# Altium schematic symbol library WE-KI HC.SchLib: 94 symbols (part 2 of 2)
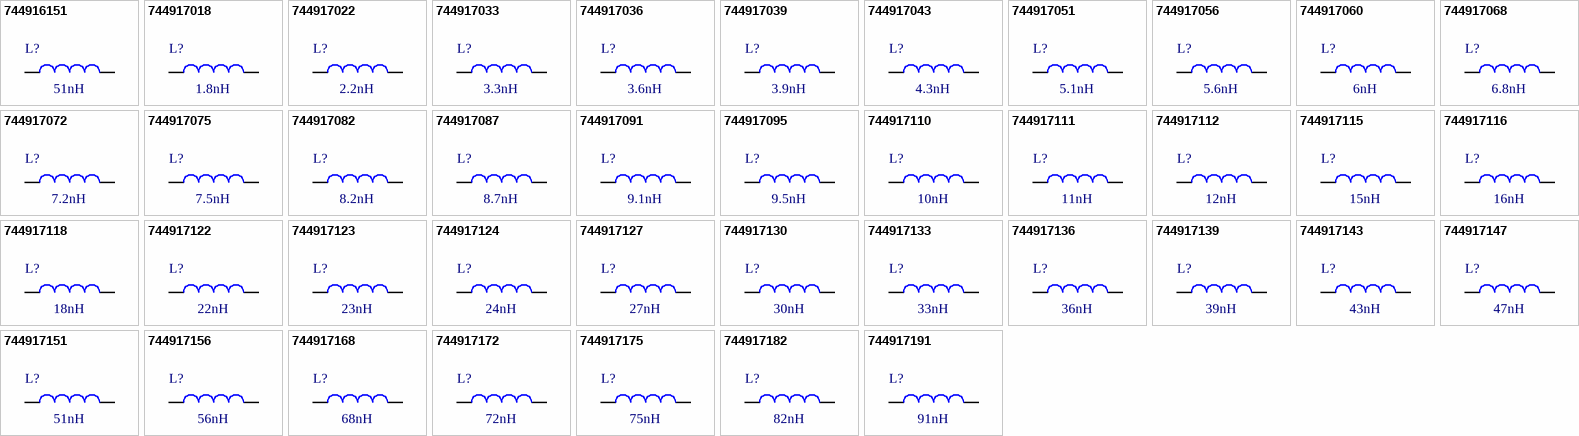
[diagram p3: symbols 744916151 to 744917191]

## 744917095
designator L?, comment 9.5nH
WE-KI HC SMT High Current Wire Wound Ceramic Inductor, size 0603, 9.5nH, 1.4A, 0.053Ω; Manufacturer Part Number: 744917095; Manufacturer: Wurth Elektronik; Case/Size Code: 0603; Inductance Tolerance: +/-2%; Q Factor: 39; Self Resonant Frequency: 4900MHz; Category: RF Inductors; Match Code: WE-KI HC; ComponentLink1Description: Website Link; ComponentLink1URL: https://www.we-online.com/redexpert/article/744917095?ad; ComponentLink2Description: Datasheet Link; ComponentLink2URL: https://www.we-online.com/redexpert/spec/744917095?ad; Mount: Surface Mount; Min Operating Temperature: -40°C; Max Operating Temperature: 125°C; Packaging: Tape and Reel; Length: 1.6mm; Width: 1mm; Height: 0.8mm; DC Resistance Max: 0.053Ω; Inductance: 9.5nH; Rated Current: 1.4A
footprint WE-KI HC_0603
simulation model 0603_744917095_9.5n
pins: 1, 2

## 744917110
designator L?, comment 10nH
WE-KI HC SMT High Current Wire Wound Ceramic Inductor, size 0603, 10nH, 1.4A, 0.048Ω; Manufacturer Part Number: 744917110; Manufacturer: Wurth Elektronik; Case/Size Code: 0603; Inductance Tolerance: +/-2%; Q Factor: 39; Self Resonant Frequency: 4300MHz; Category: RF Inductors; Match Code: WE-KI HC; ComponentLink1Description: Website Link; ComponentLink1URL: https://www.we-online.com/redexpert/article/744917110?ad; ComponentLink2Description: Datasheet Link; ComponentLink2URL: https://www.we-online.com/redexpert/spec/744917110?ad; Mount: Surface Mount; Min Operating Temperature: -40°C; Max Operating Temperature: 125°C; Packaging: Tape and Reel; Length: 1.6mm; Width: 1mm; Height: 0.8mm; DC Resistance Max: 0.048Ω; Inductance: 10nH; Rated Current: 1.4A
footprint WE-KI HC_0603
simulation model 0603_744917110_10n
pins: 1, 2

## 744917111
designator L?, comment 11nH
WE-KI HC SMT High Current Wire Wound Ceramic Inductor, size 0603, 11nH, 1.4A, 0.058Ω; Manufacturer Part Number: 744917111; Manufacturer: Wurth Elektronik; Case/Size Code: 0603; Inductance Tolerance: +/-2%; Q Factor: 33; Self Resonant Frequency: 4100MHz; Category: RF Inductors; Match Code: WE-KI HC; ComponentLink1Description: Website Link; ComponentLink1URL: https://www.we-online.com/redexpert/article/744917111?ad; ComponentLink2Description: Datasheet Link; ComponentLink2URL: https://www.we-online.com/redexpert/spec/744917111?ad; Mount: Surface Mount; Min Operating Temperature: -40°C; Max Operating Temperature: 125°C; Packaging: Tape and Reel; Length: 1.6mm; Width: 1mm; Height: 0.8mm; DC Resistance Max: 0.058Ω; Inductance: 11nH; Rated Current: 1.4A
footprint WE-KI HC_0603
simulation model 0603_744917111_11n
pins: 1, 2

## 744917112
designator L?, comment 12nH
WE-KI HC SMT High Current Wire Wound Ceramic Inductor, size 0603, 12nH, 1.1A, 0.115Ω; Manufacturer Part Number: 744917112; Manufacturer: Wurth Elektronik; Case/Size Code: 0603; Inductance Tolerance: +/-2%; Q Factor: 30; Self Resonant Frequency: 4100MHz; Category: RF Inductors; Match Code: WE-KI HC; ComponentLink1Description: Website Link; ComponentLink1URL: https://www.we-online.com/redexpert/article/744917112?ad; ComponentLink2Description: Datasheet Link; ComponentLink2URL: https://www.we-online.com/redexpert/spec/744917112?ad; Mount: Surface Mount; Min Operating Temperature: -40°C; Max Operating Temperature: 125°C; Packaging: Tape and Reel; Length: 1.6mm; Width: 1mm; Height: 0.8mm; DC Resistance Max: 0.115Ω; Inductance: 12nH; Rated Current: 1.1A
footprint WE-KI HC_0603
simulation model 0603_744917112_12n
pins: 1, 2

## 744917115
designator L?, comment 15nH
WE-KI HC SMT High Current Wire Wound Ceramic Inductor, size 0603, 15nH, 1.2A, 0.078Ω; Manufacturer Part Number: 744917115; Manufacturer: Wurth Elektronik; Case/Size Code: 0603; Inductance Tolerance: +/-2%; Q Factor: 38; Self Resonant Frequency: 3600MHz; Category: RF Inductors; Match Code: WE-KI HC; ComponentLink1Description: Website Link; ComponentLink1URL: https://www.we-online.com/redexpert/article/744917115?ad; ComponentLink2Description: Datasheet Link; ComponentLink2URL: https://www.we-online.com/redexpert/spec/744917115?ad; Mount: Surface Mount; Min Operating Temperature: -40°C; Max Operating Temperature: 125°C; Packaging: Tape and Reel; Length: 1.6mm; Width: 1mm; Height: 0.8mm; DC Resistance Max: 0.078Ω; Inductance: 15nH; Rated Current: 1.2A
footprint WE-KI HC_0603
simulation model 0603_744917115_15n
pins: 1, 2

## 744917116
designator L?, comment 16nH
WE-KI HC SMT High Current Wire Wound Ceramic Inductor, size 0603, 16nH, 1.1A, 0.085Ω; Manufacturer Part Number: 744917116; Manufacturer: Wurth Elektronik; Case/Size Code: 0603; Inductance Tolerance: +/-2%; Q Factor: 36; Self Resonant Frequency: 3500MHz; Category: RF Inductors; Match Code: WE-KI HC; ComponentLink1Description: Website Link; ComponentLink1URL: https://www.we-online.com/redexpert/article/744917116?ad; ComponentLink2Description: Datasheet Link; ComponentLink2URL: https://www.we-online.com/redexpert/spec/744917116?ad; Mount: Surface Mount; Min Operating Temperature: -40°C; Max Operating Temperature: 125°C; Packaging: Tape and Reel; Length: 1.6mm; Width: 1mm; Height: 0.8mm; DC Resistance Max: 0.085Ω; Inductance: 16nH; Rated Current: 1.1A
footprint WE-KI HC_0603
simulation model 0603_744917116_16n
pins: 1, 2

## 744917118
designator L?, comment 18nH
WE-KI HC SMT High Current Wire Wound Ceramic Inductor, size 0603, 18nH, 1.2A, 0.066Ω; Manufacturer Part Number: 744917118; Manufacturer: Wurth Elektronik; Case/Size Code: 0603; Inductance Tolerance: +/-2%; Q Factor: 33; Self Resonant Frequency: 3300MHz; Category: RF Inductors; Match Code: WE-KI HC; ComponentLink1Description: Website Link; ComponentLink1URL: https://www.we-online.com/redexpert/article/744917118?ad; ComponentLink2Description: Datasheet Link; ComponentLink2URL: https://www.we-online.com/redexpert/spec/744917118?ad; Mount: Surface Mount; Min Operating Temperature: -40°C; Max Operating Temperature: 125°C; Packaging: Tape and Reel; Length: 1.6mm; Width: 1mm; Height: 0.8mm; DC Resistance Max: 0.066Ω; Inductance: 18nH; Rated Current: 1.2A
footprint WE-KI HC_0603
simulation model 0603_744917118_18n
pins: 1, 2

## 744917122
designator L?, comment 22nH
WE-KI HC SMT High Current Wire Wound Ceramic Inductor, size 0603, 22nH, 0.85A, 0.14Ω; Manufacturer Part Number: 744917122; Manufacturer: Wurth Elektronik; Case/Size Code: 0603; Inductance Tolerance: +/-2%; Q Factor: 35; Self Resonant Frequency: 3150MHz; Category: RF Inductors; Match Code: WE-KI HC; ComponentLink1Description: Website Link; ComponentLink1URL: https://www.we-online.com/redexpert/article/744917122?ad; ComponentLink2Description: Datasheet Link; ComponentLink2URL: https://www.we-online.com/redexpert/spec/744917122?ad; Mount: Surface Mount; Min Operating Temperature: -40°C; Max Operating Temperature: 125°C; Packaging: Tape and Reel; Length: 1.6mm; Width: 1mm; Height: 0.8mm; DC Resistance Max: 0.14Ω; Inductance: 22nH; Rated Current: 0.85A
footprint WE-KI HC_0603
simulation model 0603_744917122_22n
pins: 1, 2

## 744917123
designator L?, comment 23nH
WE-KI HC SMT High Current Wire Wound Ceramic Inductor, size 0603, 23nH, 0.85A, 0.19Ω; Manufacturer Part Number: 744917123; Manufacturer: Wurth Elektronik; Case/Size Code: 0603; Inductance Tolerance: +/-2%; Q Factor: 32; Self Resonant Frequency: 3000MHz; Category: RF Inductors; Match Code: WE-KI HC; ComponentLink1Description: Website Link; ComponentLink1URL: https://www.we-online.com/redexpert/article/744917123?ad; ComponentLink2Description: Datasheet Link; ComponentLink2URL: https://www.we-online.com/redexpert/spec/744917123?ad; Mount: Surface Mount; Min Operating Temperature: -40°C; Max Operating Temperature: 125°C; Packaging: Tape and Reel; Length: 1.6mm; Width: 1mm; Height: 0.8mm; DC Resistance Max: 0.19Ω; Inductance: 23nH; Rated Current: 0.85A
footprint WE-KI HC_0603
simulation model 0603_744917123_23n
pins: 1, 2

## 744917124
designator L?, comment 24nH
WE-KI HC SMT High Current Wire Wound Ceramic Inductor, size 0603, 24nH, 1.1A, 0.074Ω; Manufacturer Part Number: 744917124; Manufacturer: Wurth Elektronik; Case/Size Code: 0603; Inductance Tolerance: +/-2%; Q Factor: 34; Self Resonant Frequency: 2950MHz; Category: RF Inductors; Match Code: WE-KI HC; ComponentLink1Description: Website Link; ComponentLink1URL: https://www.we-online.com/redexpert/article/744917124?ad; ComponentLink2Description: Datasheet Link; ComponentLink2URL: https://www.we-online.com/redexpert/spec/744917124?ad; Mount: Surface Mount; Min Operating Temperature: -40°C; Max Operating Temperature: 125°C; Packaging: Tape and Reel; Length: 1.6mm; Width: 1mm; Height: 0.8mm; DC Resistance Max: 0.074Ω; Inductance: 24nH; Rated Current: 1.1A
footprint WE-KI HC_0603
simulation model 0603_744917124_24n
pins: 1, 2

## 744917127
designator L?, comment 27nH
WE-KI HC SMT High Current Wire Wound Ceramic Inductor, size 0603, 27nH, 0.78A, 0.2Ω; Manufacturer Part Number: 744917127; Manufacturer: Wurth Elektronik; Case/Size Code: 0603; Inductance Tolerance: +/-2%; Q Factor: 35; Self Resonant Frequency: 2800MHz; Category: RF Inductors; Match Code: WE-KI HC; ComponentLink1Description: Website Link; ComponentLink1URL: https://www.we-online.com/redexpert/article/744917127?ad; ComponentLink2Description: Datasheet Link; ComponentLink2URL: https://www.we-online.com/redexpert/spec/744917127?ad; Mount: Surface Mount; Min Operating Temperature: -40°C; Max Operating Temperature: 125°C; Packaging: Tape and Reel; Length: 1.6mm; Width: 1mm; Height: 0.8mm; DC Resistance Max: 0.2Ω; Inductance: 27nH; Rated Current: 0.78A
footprint WE-KI HC_0603
simulation model 0603_744917127_27n
pins: 1, 2

## 744917130
designator L?, comment 30nH
WE-KI HC SMT High Current Wire Wound Ceramic Inductor, size 0603, 30nH, 0.92A, 0.16Ω; Manufacturer Part Number: 744917130; Manufacturer: Wurth Elektronik; Case/Size Code: 0603; Inductance Tolerance: +/-2%; Q Factor: 39; Self Resonant Frequency: 2800MHz; Category: RF Inductors; Match Code: WE-KI HC; ComponentLink1Description: Website Link; ComponentLink1URL: https://www.we-online.com/redexpert/article/744917130?ad; ComponentLink2Description: Datasheet Link; ComponentLink2URL: https://www.we-online.com/redexpert/spec/744917130?ad; Mount: Surface Mount; Min Operating Temperature: -40°C; Max Operating Temperature: 125°C; Packaging: Tape and Reel; Length: 1.6mm; Width: 1mm; Height: 0.8mm; DC Resistance Max: 0.16Ω; Inductance: 30nH; Rated Current: 0.92A
footprint WE-KI HC_0603
simulation model 0603_744917130_30n
pins: 1, 2

## 744917133
designator L?, comment 33nH
WE-KI HC SMT High Current Wire Wound Ceramic Inductor, size 0603, 33nH, 0.68A, 0.22Ω; Manufacturer Part Number: 744917133; Manufacturer: Wurth Elektronik; Case/Size Code: 0603; Inductance Tolerance: +/-2%; Q Factor: 36; Self Resonant Frequency: 2700MHz; Category: RF Inductors; Match Code: WE-KI HC; ComponentLink1Description: Website Link; ComponentLink1URL: https://www.we-online.com/redexpert/article/744917133?ad; ComponentLink2Description: Datasheet Link; ComponentLink2URL: https://www.we-online.com/redexpert/spec/744917133?ad; Mount: Surface Mount; Min Operating Temperature: -40°C; Max Operating Temperature: 125°C; Packaging: Tape and Reel; Length: 1.6mm; Width: 1mm; Height: 0.8mm; DC Resistance Max: 0.22Ω; Inductance: 33nH; Rated Current: 0.68A
footprint WE-KI HC_0603
simulation model 0603_744917133_33n
pins: 1, 2

## 744917136
designator L?, comment 36nH
WE-KI HC SMT High Current Wire Wound Ceramic Inductor, size 0603, 36nH, 0.72A, 0.225Ω; Manufacturer Part Number: 744917136; Manufacturer: Wurth Elektronik; Case/Size Code: 0603; Inductance Tolerance: +/-2%; Q Factor: 35; Self Resonant Frequency: 2500MHz; Category: RF Inductors; Match Code: WE-KI HC; ComponentLink1Description: Website Link; ComponentLink1URL: https://www.we-online.com/redexpert/article/744917136?ad; ComponentLink2Description: Datasheet Link; ComponentLink2URL: https://www.we-online.com/redexpert/spec/744917136?ad; Mount: Surface Mount; Min Operating Temperature: -40°C; Max Operating Temperature: 125°C; Packaging: Tape and Reel; Length: 1.6mm; Width: 1mm; Height: 0.8mm; DC Resistance Max: 0.225Ω; Inductance: 36nH; Rated Current: 0.72A
footprint WE-KI HC_0603
simulation model 0603_744917136_36n
pins: 1, 2

## 744917139
designator L?, comment 39nH
WE-KI HC SMT High Current Wire Wound Ceramic Inductor, size 0603, 39nH, 0.68A, 0.25Ω; Manufacturer Part Number: 744917139; Manufacturer: Wurth Elektronik; Case/Size Code: 0603; Inductance Tolerance: +/-2%; Q Factor: 38; Self Resonant Frequency: 2450MHz; Category: RF Inductors; Match Code: WE-KI HC; ComponentLink1Description: Website Link; ComponentLink1URL: https://www.we-online.com/redexpert/article/744917139?ad; ComponentLink2Description: Datasheet Link; ComponentLink2URL: https://www.we-online.com/redexpert/spec/744917139?ad; Mount: Surface Mount; Min Operating Temperature: -40°C; Max Operating Temperature: 125°C; Packaging: Tape and Reel; Length: 1.6mm; Width: 1mm; Height: 0.8mm; DC Resistance Max: 0.25Ω; Inductance: 39nH; Rated Current: 0.68A
footprint WE-KI HC_0603
simulation model 0603_744917139_39n
pins: 1, 2

## 744917143
designator L?, comment 43nH
WE-KI HC SMT High Current Wire Wound Ceramic Inductor, size 0603, 43nH, 0.81A, 0.225Ω; Manufacturer Part Number: 744917143; Manufacturer: Wurth Elektronik; Case/Size Code: 0603; Inductance Tolerance: +/-2%; Q Factor: 36; Self Resonant Frequency: 2450MHz; Category: RF Inductors; Match Code: WE-KI HC; ComponentLink1Description: Website Link; ComponentLink1URL: https://www.we-online.com/redexpert/article/744917143?ad; ComponentLink2Description: Datasheet Link; ComponentLink2URL: https://www.we-online.com/redexpert/spec/744917143?ad; Mount: Surface Mount; Min Operating Temperature: -40°C; Max Operating Temperature: 125°C; Packaging: Tape and Reel; Length: 1.6mm; Width: 1mm; Height: 0.8mm; DC Resistance Max: 0.225Ω; Inductance: 43nH; Rated Current: 0.81A
footprint WE-KI HC_0603
simulation model 0603_744917143_43n
pins: 1, 2

## 744917147
designator L?, comment 47nH
WE-KI HC SMT High Current Wire Wound Ceramic Inductor, size 0603, 47nH, 0.68A, 0.24Ω; Manufacturer Part Number: 744917147; Manufacturer: Wurth Elektronik; Case/Size Code: 0603; Inductance Tolerance: +/-2%; Q Factor: 38; Self Resonant Frequency: 2300MHz; Category: RF Inductors; Match Code: WE-KI HC; ComponentLink1Description: Website Link; ComponentLink1URL: https://www.we-online.com/redexpert/article/744917147?ad; ComponentLink2Description: Datasheet Link; ComponentLink2URL: https://www.we-online.com/redexpert/spec/744917147?ad; Mount: Surface Mount; Min Operating Temperature: -40°C; Max Operating Temperature: 125°C; Packaging: Tape and Reel; Length: 1.6mm; Width: 1mm; Height: 0.8mm; DC Resistance Max: 0.24Ω; Inductance: 47nH; Rated Current: 0.68A
footprint WE-KI HC_0603
simulation model 0603_744917147_47n
pins: 1, 2

## 744917151
designator L?, comment 51nH
WE-KI HC SMT High Current Wire Wound Ceramic Inductor, size 0603, 51nH, 0.66A, 0.28Ω; Manufacturer Part Number: 744917151; Manufacturer: Wurth Elektronik; Case/Size Code: 0603; Inductance Tolerance: +/-2%; Q Factor: 39; Self Resonant Frequency: 2300MHz; Category: RF Inductors; Match Code: WE-KI HC; ComponentLink1Description: Website Link; ComponentLink1URL: https://www.we-online.com/redexpert/article/744917151?ad; ComponentLink2Description: Datasheet Link; ComponentLink2URL: https://www.we-online.com/redexpert/spec/744917151?ad; Mount: Surface Mount; Min Operating Temperature: -40°C; Max Operating Temperature: 125°C; Packaging: Tape and Reel; Length: 1.6mm; Width: 1mm; Height: 0.8mm; DC Resistance Max: 0.28Ω; Inductance: 51nH; Rated Current: 0.66A
footprint WE-KI HC_0603
simulation model 0603_744917151_51n
pins: 1, 2

## 744917156
designator L?, comment 56nH
WE-KI HC SMT High Current Wire Wound Ceramic Inductor, size 0603, 56nH, 0.61A, 0.3Ω; Manufacturer Part Number: 744917156; Manufacturer: Wurth Elektronik; Case/Size Code: 0603; Inductance Tolerance: +/-2%; Q Factor: 40; Self Resonant Frequency: 2200MHz; Category: RF Inductors; Match Code: WE-KI HC; ComponentLink1Description: Website Link; ComponentLink1URL: https://www.we-online.com/redexpert/article/744917156?ad; ComponentLink2Description: Datasheet Link; ComponentLink2URL: https://www.we-online.com/redexpert/spec/744917156?ad; Mount: Surface Mount; Min Operating Temperature: -40°C; Max Operating Temperature: 125°C; Packaging: Tape and Reel; Length: 1.6mm; Width: 1mm; Height: 0.8mm; DC Resistance Max: 0.3Ω; Inductance: 56nH; Rated Current: 0.61A
footprint WE-KI HC_0603
simulation model 0603_744917156_56n
pins: 1, 2

## 744917168
designator L?, comment 68nH
WE-KI HC SMT High Current Wire Wound Ceramic Inductor, size 0603, 68nH, 0.6A, 0.33Ω; Manufacturer Part Number: 744917168; Manufacturer: Wurth Elektronik; Case/Size Code: 0603; Inductance Tolerance: +/-2%; Q Factor: 37; Self Resonant Frequency: 2000MHz; Category: RF Inductors; Match Code: WE-KI HC; ComponentLink1Description: Website Link; ComponentLink1URL: https://www.we-online.com/redexpert/article/744917168?ad; ComponentLink2Description: Datasheet Link; ComponentLink2URL: https://www.we-online.com/redexpert/spec/744917168?ad; Mount: Surface Mount; Min Operating Temperature: -40°C; Max Operating Temperature: 125°C; Packaging: Tape and Reel; Length: 1.6mm; Width: 1mm; Height: 0.8mm; DC Resistance Max: 0.33Ω; Inductance: 68nH; Rated Current: 0.6A
footprint WE-KI HC_0603
simulation model 0603_744917168_68n
pins: 1, 2

## 744917172
designator L?, comment 72nH
WE-KI HC SMT High Current Wire Wound Ceramic Inductor, size 0603, 72nH, 0.55A, 0.42Ω; Manufacturer Part Number: 744917172; Manufacturer: Wurth Elektronik; Case/Size Code: 0603; Inductance Tolerance: +/-2%; Q Factor: 37; Self Resonant Frequency: 1900MHz; Category: RF Inductors; Match Code: WE-KI HC; ComponentLink1Description: Website Link; ComponentLink1URL: https://www.we-online.com/redexpert/article/744917172?ad; ComponentLink2Description: Datasheet Link; ComponentLink2URL: https://www.we-online.com/redexpert/spec/744917172?ad; Mount: Surface Mount; Min Operating Temperature: -40°C; Max Operating Temperature: 125°C; Packaging: Tape and Reel; Length: 1.6mm; Width: 1mm; Height: 0.8mm; DC Resistance Max: 0.42Ω; Inductance: 72nH; Rated Current: 0.55A
footprint WE-KI HC_0603
simulation model 0603_744917172_72n
pins: 1, 2

## 744917175
designator L?, comment 75nH
WE-KI HC SMT High Current Wire Wound Ceramic Inductor, size 0603, 75nH, 0.5A, 0.52Ω; Manufacturer Part Number: 744917175; Manufacturer: Wurth Elektronik; Case/Size Code: 0603; Inductance Tolerance: +/-2%; Q Factor: 37; Self Resonant Frequency: 1900MHz; Category: RF Inductors; Match Code: WE-KI HC; ComponentLink1Description: Website Link; ComponentLink1URL: https://www.we-online.com/redexpert/article/744917175?ad; ComponentLink2Description: Datasheet Link; ComponentLink2URL: https://www.we-online.com/redexpert/spec/744917175?ad; Mount: Surface Mount; Min Operating Temperature: -40°C; Max Operating Temperature: 125°C; Packaging: Tape and Reel; Length: 1.6mm; Width: 1mm; Height: 0.8mm; DC Resistance Max: 0.52Ω; Inductance: 75nH; Rated Current: 0.5A
footprint WE-KI HC_0603
simulation model 0603_744917175_75n
pins: 1, 2

## 744917182
designator L?, comment 82nH
WE-KI HC SMT High Current Wire Wound Ceramic Inductor, size 0603, 82nH, 0.51A, 0.46Ω; Manufacturer Part Number: 744917182; Manufacturer: Wurth Elektronik; Case/Size Code: 0603; Inductance Tolerance: +/-2%; Q Factor: 35; Self Resonant Frequency: 1800MHz; Category: RF Inductors; Match Code: WE-KI HC; ComponentLink1Description: Website Link; ComponentLink1URL: https://www.we-online.com/redexpert/article/744917182?ad; ComponentLink2Description: Datasheet Link; ComponentLink2URL: https://www.we-online.com/redexpert/spec/744917182?ad; Mount: Surface Mount; Min Operating Temperature: -40°C; Max Operating Temperature: 125°C; Packaging: Tape and Reel; Length: 1.6mm; Width: 1mm; Height: 0.8mm; DC Resistance Max: 0.46Ω; Inductance: 82nH; Rated Current: 0.51A
footprint WE-KI HC_0603
simulation model 0603_744917182_82n
pins: 1, 2

## 744917191
designator L?, comment 91nH
WE-KI HC SMT High Current Wire Wound Ceramic Inductor, size 0603, 91nH, 0.44A, 0.58Ω; Manufacturer Part Number: 744917191; Manufacturer: Wurth Elektronik; Case/Size Code: 0603; Inductance Tolerance: +/-2%; Q Factor: 36; Self Resonant Frequency: 1650MHz; Category: RF Inductors; Match Code: WE-KI HC; ComponentLink1Description: Website Link; ComponentLink1URL: https://www.we-online.com/redexpert/article/744917191?ad; ComponentLink2Description: Datasheet Link; ComponentLink2URL: https://www.we-online.com/redexpert/spec/744917191?ad; Mount: Surface Mount; Min Operating Temperature: -40°C; Max Operating Temperature: 125°C; Packaging: Tape and Reel; Length: 1.6mm; Width: 1mm; Height: 0.8mm; DC Resistance Max: 0.58Ω; Inductance: 91nH; Rated Current: 0.44A
footprint WE-KI HC_0603
simulation model 0603_744917191_91n
pins: 1, 2

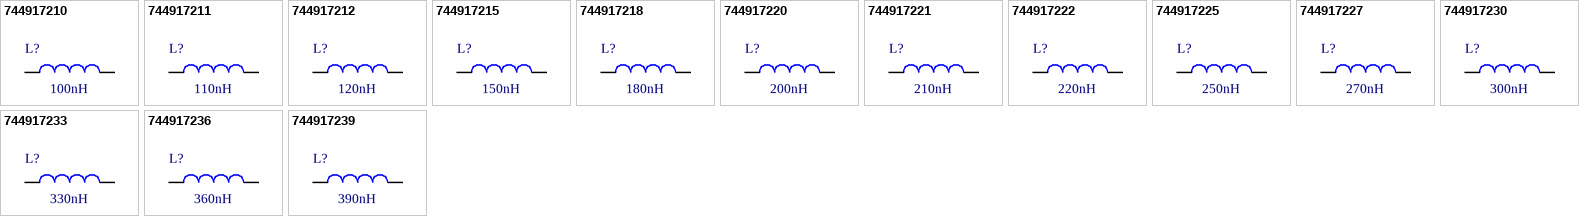
[diagram p2: symbols 744917210 to 744917239]

## 744917210
designator L?, comment 100nH
WE-KI HC SMT High Current Wire Wound Ceramic Inductor, size 0603, 100nH, 0.47A, 0.54Ω; Manufacturer Part Number: 744917210; Manufacturer: Wurth Elektronik; Case/Size Code: 0603; Inductance Tolerance: +/-2%; Q Factor: 35; Self Resonant Frequency: 1700MHz; Category: RF Inductors; Match Code: WE-KI HC; ComponentLink1Description: Website Link; ComponentLink1URL: https://www.we-online.com/redexpert/article/744917210?ad; ComponentLink2Description: Datasheet Link; ComponentLink2URL: https://www.we-online.com/redexpert/spec/744917210?ad; Mount: Surface Mount; Min Operating Temperature: -40°C; Max Operating Temperature: 125°C; Packaging: Tape and Reel; Length: 1.6mm; Width: 1mm; Height: 0.8mm; DC Resistance Max: 0.54Ω; Inductance: 100nH; Rated Current: 0.47A
footprint WE-KI HC_0603
simulation model 0603_744917210_100n
pins: 1, 2

## 744917211
designator L?, comment 110nH
WE-KI HC SMT High Current Wire Wound Ceramic Inductor, size 0603, 110nH, 0.44A, 0.58Ω; Manufacturer Part Number: 744917211; Manufacturer: Wurth Elektronik; Case/Size Code: 0603; Inductance Tolerance: +/-2%; Q Factor: 38; Self Resonant Frequency: 1600MHz; Category: RF Inductors; Match Code: WE-KI HC; ComponentLink1Description: Website Link; ComponentLink1URL: https://www.we-online.com/redexpert/article/744917211?ad; ComponentLink2Description: Datasheet Link; ComponentLink2URL: https://www.we-online.com/redexpert/spec/744917211?ad; Mount: Surface Mount; Min Operating Temperature: -40°C; Max Operating Temperature: 125°C; Packaging: Tape and Reel; Length: 1.6mm; Width: 1mm; Height: 0.8mm; DC Resistance Max: 0.58Ω; Inductance: 110nH; Rated Current: 0.44A
footprint WE-KI HC_0603
simulation model 0603_744917211_110n
pins: 1, 2

## 744917212
designator L?, comment 120nH
WE-KI HC SMT High Current Wire Wound Ceramic Inductor, size 0603, 120nH, 0.42A, 0.72Ω; Manufacturer Part Number: 744917212; Manufacturer: Wurth Elektronik; Case/Size Code: 0603; Inductance Tolerance: +/-2%; Q Factor: 32; Self Resonant Frequency: 1550MHz; Category: RF Inductors; Match Code: WE-KI HC; ComponentLink1Description: Website Link; ComponentLink1URL: https://www.we-online.com/redexpert/article/744917212?ad; ComponentLink2Description: Datasheet Link; ComponentLink2URL: https://www.we-online.com/redexpert/spec/744917212?ad; Mount: Surface Mount; Min Operating Temperature: -40°C; Max Operating Temperature: 125°C; Packaging: Tape and Reel; Length: 1.6mm; Width: 1mm; Height: 0.8mm; DC Resistance Max: 0.72Ω; Inductance: 120nH; Rated Current: 0.42A
footprint WE-KI HC_0603
simulation model 0603_744917212_120n
pins: 1, 2

## 744917215
designator L?, comment 150nH
WE-KI HC SMT High Current Wire Wound Ceramic Inductor, size 0603, 150nH, 0.39A, 0.82Ω; Manufacturer Part Number: 744917215; Manufacturer: Wurth Elektronik; Case/Size Code: 0603; Inductance Tolerance: +/-2%; Q Factor: 38; Self Resonant Frequency: 1350MHz; Category: RF Inductors; Match Code: WE-KI HC; ComponentLink1Description: Website Link; ComponentLink1URL: https://www.we-online.com/redexpert/article/744917215?ad; ComponentLink2Description: Datasheet Link; ComponentLink2URL: https://www.we-online.com/redexpert/spec/744917215?ad; Mount: Surface Mount; Min Operating Temperature: -40°C; Max Operating Temperature: 125°C; Packaging: Tape and Reel; Length: 1.6mm; Width: 1mm; Height: 0.8mm; DC Resistance Max: 0.82Ω; Inductance: 150nH; Rated Current: 0.39A
footprint WE-KI HC_0603
simulation model 0603_744917215_150n
pins: 1, 2

## 744917218
designator L?, comment 180nH
WE-KI HC SMT High Current Wire Wound Ceramic Inductor, size 0603, 180nH, 0.31A, 1.5Ω; Manufacturer Part Number: 744917218; Manufacturer: Wurth Elektronik; Case/Size Code: 0603; Inductance Tolerance: +/-2%; Q Factor: 25; Self Resonant Frequency: 1300MHz; Category: RF Inductors; Match Code: WE-KI HC; ComponentLink1Description: Website Link; ComponentLink1URL: https://www.we-online.com/redexpert/article/744917218?ad; ComponentLink2Description: Datasheet Link; ComponentLink2URL: https://www.we-online.com/redexpert/spec/744917218?ad; Mount: Surface Mount; Min Operating Temperature: -40°C; Max Operating Temperature: 125°C; Packaging: Tape and Reel; Length: 1.6mm; Width: 1mm; Height: 0.8mm; DC Resistance Max: 1.5Ω; Inductance: 180nH; Rated Current: 0.31A
footprint WE-KI HC_0603
simulation model 0603_744917218_180n
pins: 1, 2

## 744917220
designator L?, comment 200nH
WE-KI HC SMT High Current Wire Wound Ceramic Inductor, size 0603, 200nH, 0.28A, 2Ω; Manufacturer Part Number: 744917220; Manufacturer: Wurth Elektronik; Case/Size Code: 0603; Inductance Tolerance: +/-2%; Q Factor: 38; Self Resonant Frequency: 1250MHz; Category: RF Inductors; Match Code: WE-KI HC; ComponentLink1Description: Website Link; ComponentLink1URL: https://www.we-online.com/redexpert/article/744917220?ad; ComponentLink2Description: Datasheet Link; ComponentLink2URL: https://www.we-online.com/redexpert/spec/744917220?ad; Mount: Surface Mount; Min Operating Temperature: -40°C; Max Operating Temperature: 125°C; Packaging: Tape and Reel; Length: 1.6mm; Width: 1mm; Height: 0.8mm; DC Resistance Max: 2Ω; Inductance: 200nH; Rated Current: 0.28A
footprint WE-KI HC_0603
simulation model 0603_744917220_200n
pins: 1, 2

## 744917221
designator L?, comment 210nH
WE-KI HC SMT High Current Wire Wound Ceramic Inductor, size 0603, 210nH, 0.28A, 2Ω; Manufacturer Part Number: 744917221; Manufacturer: Wurth Elektronik; Case/Size Code: 0603; Inductance Tolerance: +/-2%; Q Factor: 24; Self Resonant Frequency: 1200MHz; Category: RF Inductors; Match Code: WE-KI HC; ComponentLink1Description: Website Link; ComponentLink1URL: https://www.we-online.com/redexpert/article/744917221?ad; ComponentLink2Description: Datasheet Link; ComponentLink2URL: https://www.we-online.com/redexpert/spec/744917221?ad; Mount: Surface Mount; Min Operating Temperature: -40°C; Max Operating Temperature: 125°C; Packaging: Tape and Reel; Length: 1.6mm; Width: 1mm; Height: 0.8mm; DC Resistance Max: 2Ω; Inductance: 210nH; Rated Current: 0.28A
footprint WE-KI HC_0603
simulation model 0603_744917221_210n
pins: 1, 2

## 744917222
designator L?, comment 220nH
WE-KI HC SMT High Current Wire Wound Ceramic Inductor, size 0603, 220nH, 0.28A, 2Ω; Manufacturer Part Number: 744917222; Manufacturer: Wurth Elektronik; Case/Size Code: 0603; Inductance Tolerance: +/-2%; Q Factor: 25; Self Resonant Frequency: 1100MHz; Category: RF Inductors; Match Code: WE-KI HC; ComponentLink1Description: Website Link; ComponentLink1URL: https://www.we-online.com/redexpert/article/744917222?ad; ComponentLink2Description: Datasheet Link; ComponentLink2URL: https://www.we-online.com/redexpert/spec/744917222?ad; Mount: Surface Mount; Min Operating Temperature: -40°C; Max Operating Temperature: 125°C; Packaging: Tape and Reel; Length: 1.6mm; Width: 1mm; Height: 0.8mm; DC Resistance Max: 2Ω; Inductance: 220nH; Rated Current: 0.28A
footprint WE-KI HC_0603
simulation model 0603_744917222_220n
pins: 1, 2

## 744917225
designator L?, comment 250nH
WE-KI HC SMT High Current Wire Wound Ceramic Inductor, size 0603, 250nH, 0.24A, 3Ω; Manufacturer Part Number: 744917225; Manufacturer: Wurth Elektronik; Case/Size Code: 0603; Inductance Tolerance: +/-2%; Q Factor: 25; Self Resonant Frequency: 1050MHz; Category: RF Inductors; Match Code: WE-KI HC; ComponentLink1Description: Website Link; ComponentLink1URL: https://www.we-online.com/redexpert/article/744917225?ad; ComponentLink2Description: Datasheet Link; ComponentLink2URL: https://www.we-online.com/redexpert/spec/744917225?ad; Mount: Surface Mount; Min Operating Temperature: -40°C; Max Operating Temperature: 125°C; Packaging: Tape and Reel; Length: 1.6mm; Width: 1mm; Height: 0.8mm; DC Resistance Max: 3Ω; Inductance: 250nH; Rated Current: 0.24A
footprint WE-KI HC_0603
simulation model 0603_744917225_250n
pins: 1, 2

## 744917227
designator L?, comment 270nH
WE-KI HC SMT High Current Wire Wound Ceramic Inductor, size 0603, 270nH, 0.26A, 2.25Ω; Manufacturer Part Number: 744917227; Manufacturer: Wurth Elektronik; Case/Size Code: 0603; Inductance Tolerance: +/-2%; Q Factor: 25; Self Resonant Frequency: 1050MHz; Category: RF Inductors; Match Code: WE-KI HC; ComponentLink1Description: Website Link; ComponentLink1URL: https://www.we-online.com/redexpert/article/744917227?ad; ComponentLink2Description: Datasheet Link; ComponentLink2URL: https://www.we-online.com/redexpert/spec/744917227?ad; Mount: Surface Mount; Min Operating Temperature: -40°C; Max Operating Temperature: 125°C; Packaging: Tape and Reel; Length: 1.6mm; Width: 1mm; Height: 0.8mm; DC Resistance Max: 2.25Ω; Inductance: 270nH; Rated Current: 0.26A
footprint WE-KI HC_0603
simulation model 0603_744917227_270n
pins: 1, 2

## 744917230
designator L?, comment 300nH
WE-KI HC SMT High Current Wire Wound Ceramic Inductor, size 0603, 300nH, 0.22A, 2.8Ω; Manufacturer Part Number: 744917230; Manufacturer: Wurth Elektronik; Case/Size Code: 0603; Inductance Tolerance: +/-2%; Q Factor: 25; Self Resonant Frequency: 990MHz; Category: RF Inductors; Match Code: WE-KI HC; ComponentLink1Description: Website Link; ComponentLink1URL: https://www.we-online.com/redexpert/article/744917230?ad; ComponentLink2Description: Datasheet Link; ComponentLink2URL: https://www.we-online.com/redexpert/spec/744917230?ad; Mount: Surface Mount; Min Operating Temperature: -40°C; Max Operating Temperature: 125°C; Packaging: Tape and Reel; Length: 1.6mm; Width: 1mm; Height: 0.8mm; DC Resistance Max: 2.8Ω; Inductance: 300nH; Rated Current: 0.22A
footprint WE-KI HC_0603
simulation model 0603_744917230_300n
pins: 1, 2

## 744917233
designator L?, comment 330nH
WE-KI HC SMT High Current Wire Wound Ceramic Inductor, size 0603, 330nH, 0.18A, 3.6Ω; Manufacturer Part Number: 744917233; Manufacturer: Wurth Elektronik; Case/Size Code: 0603; Inductance Tolerance: +/-2%; Q Factor: 25; Self Resonant Frequency: 930MHz; Category: RF Inductors; Match Code: WE-KI HC; ComponentLink1Description: Website Link; ComponentLink1URL: https://www.we-online.com/redexpert/article/744917233?ad; ComponentLink2Description: Datasheet Link; ComponentLink2URL: https://www.we-online.com/redexpert/spec/744917233?ad; Mount: Surface Mount; Min Operating Temperature: -40°C; Max Operating Temperature: 125°C; Packaging: Tape and Reel; Length: 1.6mm; Width: 1mm; Height: 0.8mm; DC Resistance Max: 3.6Ω; Inductance: 330nH; Rated Current: 0.18A
footprint WE-KI HC_0603
simulation model 0603_744917233_330n
pins: 1, 2

## 744917236
designator L?, comment 360nH
WE-KI HC SMT High Current Wire Wound Ceramic Inductor, size 0603, 360nH, 0.17A, 4.6Ω; Manufacturer Part Number: 744917236; Manufacturer: Wurth Elektronik; Case/Size Code: 0603; Inductance Tolerance: +/-2%; Q Factor: 25; Self Resonant Frequency: 930MHz; Category: RF Inductors; Match Code: WE-KI HC; ComponentLink1Description: Website Link; ComponentLink1URL: https://www.we-online.com/redexpert/article/744917236?ad; ComponentLink2Description: Datasheet Link; ComponentLink2URL: https://www.we-online.com/redexpert/spec/744917236?ad; Mount: Surface Mount; Min Operating Temperature: -40°C; Max Operating Temperature: 125°C; Packaging: Tape and Reel; Length: 1.6mm; Width: 1mm; Height: 0.8mm; DC Resistance Max: 4.6Ω; Inductance: 360nH; Rated Current: 0.17A
footprint WE-KI HC_0603
simulation model 0603_744917236_360n
pins: 1, 2

## 744917239
designator L?, comment 390nH
WE-KI HC SMT High Current Wire Wound Ceramic Inductor, size 0603, 390nH, 0.17A, 4.7Ω; Manufacturer Part Number: 744917239; Manufacturer: Wurth Elektronik; Case/Size Code: 0603; Inductance Tolerance: +/-2%; Q Factor: 25; Self Resonant Frequency: 880MHz; Category: RF Inductors; Match Code: WE-KI HC; ComponentLink1Description: Website Link; ComponentLink1URL: https://www.we-online.com/redexpert/article/744917239?ad; ComponentLink2Description: Datasheet Link; ComponentLink2URL: https://www.we-online.com/redexpert/spec/744917239?ad; Mount: Surface Mount; Min Operating Temperature: -40°C; Max Operating Temperature: 125°C; Packaging: Tape and Reel; Length: 1.6mm; Width: 1mm; Height: 0.8mm; DC Resistance Max: 4.7Ω; Inductance: 390nH; Rated Current: 0.17A
footprint WE-KI HC_0603
simulation model 0603_744917239_390n
pins: 1, 2